# Altium footprint library SOICConnect.PcbLib: 1 footprints
Each footprint in its own frame and in the unit in brackets; x right, y up, seen from the top. Pads: shape width x height; smd on the part's side, far side on the other; paste and mask are expansions set on the pad; w line width, h text height; cw(c..) or ccw(c..) is an arc to the next point about the centre after c.
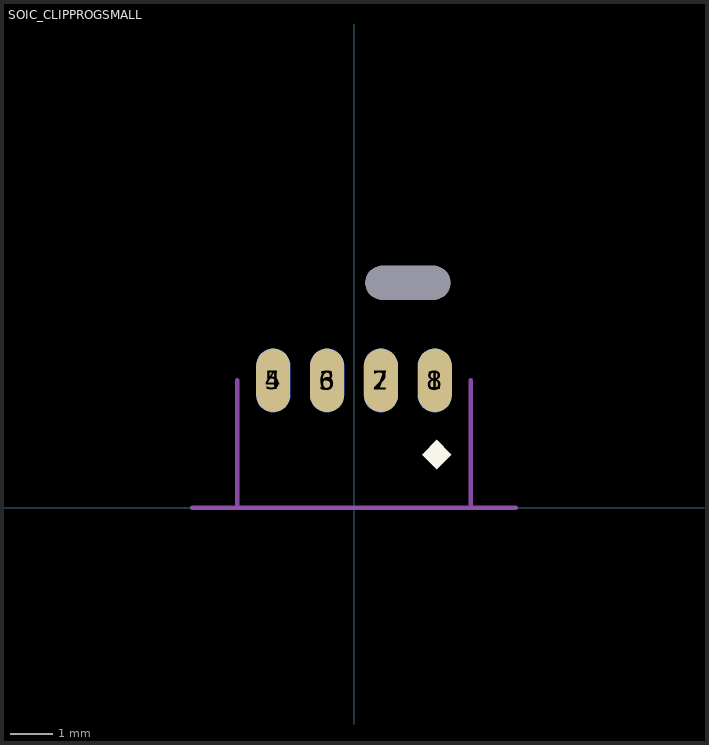
[diagram p0: the footprint, top view; thin cyan lines are the x and y axes]

## SOIC_CLIPPROGSMALL [mm]
pads (9):
  oval 0.8x1.5 smd: 1(1.905,3) 2(0.635,3) 3(-0.635,3) 4(-1.905,3)
  oval 0.8x1.5 smd far side: 5(-1.905,3) 6(-0.635,3) 7(0.635,3) 8(1.905,3)
  oval 2x0.8 hole 0.8 slot 2 at 0 deg unplated: ""(1.27,5.3)
Top Overlay:
  region: 1.95,0.896 2.304,1.25 1.95,1.604 1.596,1.25
Bottom Overlay:
  lines w0.1: -7.5,3 -3,3 ; 3,3 7.5,3
Mechanical 15:
  lines w0.1: -3.81,0 3.81,0 ; -2.75,0 -2.75,3 ; 2.75,0 2.75,3